# EAGLE library part 615008145121 (library SD-kart)
WR-MJ 45° Entry Shielded Vertical Modular Jack Reverse Shelding Tail, 8 pins=>Code : Con_I-O_MJ-45_615008145121 <http://katalog.we-online.de/media/images/eican/Con_I-O_MJ-45_615008145x21_pf2.jpg> Details see: http://katalog.we-online.de/en/em/MJ_45%C2%B0_ENTRY_SHIELDED_8P8C_STANDARD_REVERSE_METAL_POST_TRAIL_615008145X21 Created 2014-07-10, Karrer Zheng 2014 (C) Würth Elektronik
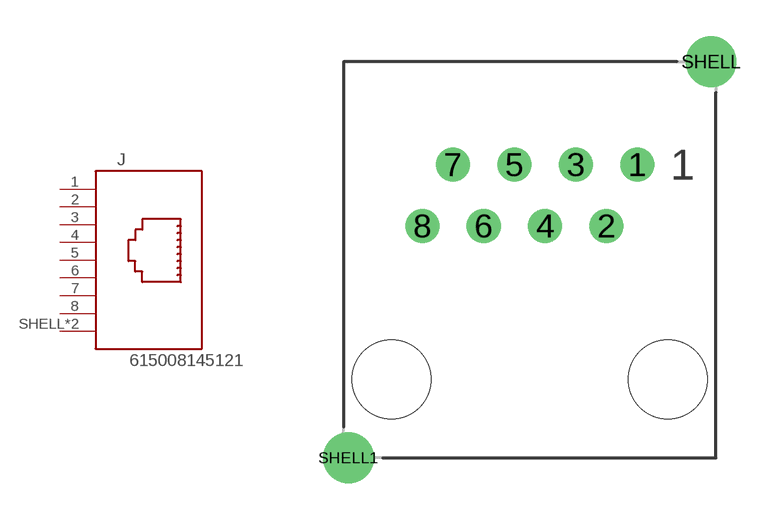
[diagram p123: symbol with the pads of 615008145121; footprint 615008145121]

Designator prefix J

## 615008145121  [615008145121]
1  8  pas
2  7  pas
3  6  pas
4  5  pas
5  4  pas
6  3  pas
7  2  pas
8  1  pas
SHELL  SHIELD  pas
SHELL1  SHIELD  pas

## Footprint 615008145121 (pad centres in mm)
WR-MJ 45° Entry Shielded Vertical Modular Jack Reverse Shelding Tail, 8 pins
drill 0.9: 1 4.445,1.27; 2 3.175,-1.27; 3 1.905,1.27; 4 0.635,-1.27; 5 -0.635,1.27; 6 -1.905,-1.27; 7 -3.175,1.27; 8 -4.445,-1.27
drill 1.4: SHELL 7.5,5.53; SHELL1 -7.5,-10.87
hole 3.25 at -5.715,-7.62
hole 3.25 at 5.715,-7.62